# Altium schematic symbol library C210 Rev_D_221221a.SCHLIB: 99 symbols (part 1 of 2)
Pins are listed as number, name and electrical type; pins without a type are passive.

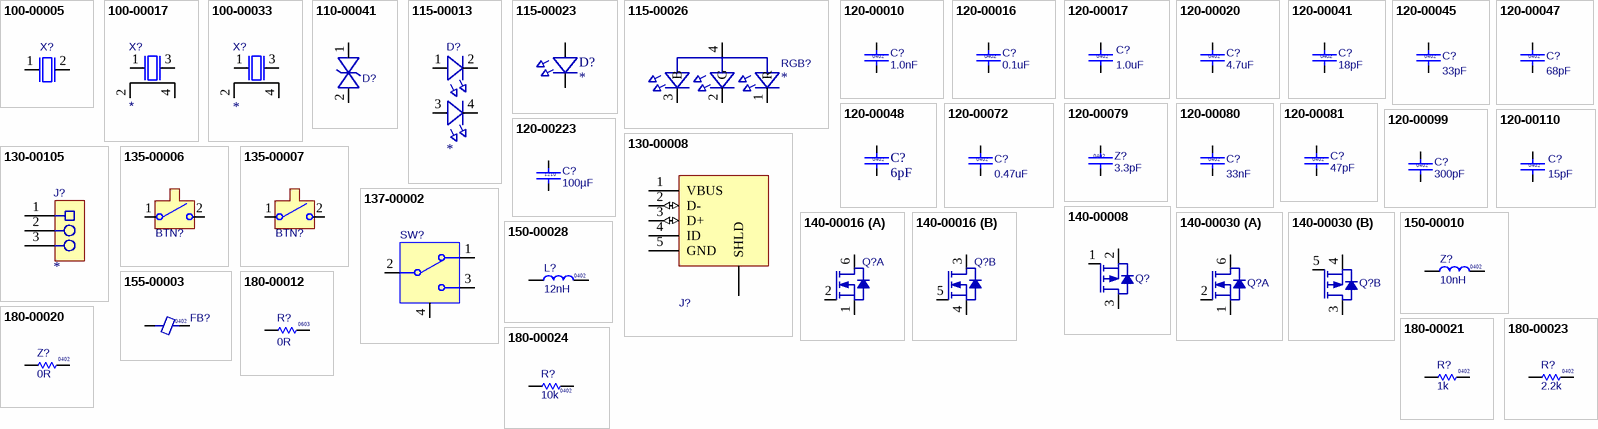
[diagram p0: symbols 100-00005 to 180-00024]

## 100-00005
designator X?
XTAL, 2Pin, 32.768kHz, 7pF 20ppm; Manufacturer Part Number 1: FC-135 32.7680KA-AG3; Part Number: 100-00005; Part Name: XTAL 32.768kHz 7pF 20ppm 3215; Part_Type: Crystal/Oscillator; Manufacturer 1: Epson; Item_Phase: Production; Body Size: 3.2mm x 1.5mm; Component Mounting Type: SMT; MFG Package: 2-SMD; Use in new designs: Yes; Revision: 0C; Supplier 1: Digi-Key; Supplier Part Number 1: SER4086CT-ND; Manufacturer 2: AVX Corporation; Manufacturer Part Number 2: ST3215SB32768C0HPWBB; Supplier 2: Digi-Key; Supplier Part Number 2: 1253-1113-1-ND; Arena Link: https://app.bom.com/a/L3MU07Q7Q98O5PC8?v=spec.summary; CL: 7pF; Frequency: 32.768kHz; Frequency Tolerance: 20ppm; Height: 0.9mm; Pins: 2
footprint XTAL_3215
pins: 1, 2

## 100-00017
designator X?
Crystal, 24.0000MHz, 20ppm, 10pF, 100 Ohm, -20Â°C - 70Â°C, SMT 4 Pin 2520; Part Number: 100-00017; Manufacturer 1: Abracon LLC; Manufacturer Part Number 1: ABM10-24.000MHZ-E20-T; Part Name: XTAL 24MHz 10pF 20ppm 2520; Body Size: 2.5mm x 2.0mm; Item Phase: Unreleased; MFG Package: 2520; Use in new designs: Yes; Voltage: None; Value: *; Supplier 1: Digi-Key; Supplier Part Number 1: 535-9093-1-ND; Manufacturer 2: Raltron Electronics; Manufacturer Part Number 2: R2520-24.000-10-1010-TR-NS4; Supplier 2: None; Supplier Part Number 2: None; Height: 0.7mm; Max Operating Temp: 70; Min Operating Temp: -20; Pins: 4; Revision: None; UBX Code: None
footprint XTAL_2520_HD
pins: 1, 2, 3, 4

## 100-00033
designator X?
12MHz ±10ppm Crystal 8pF 125 Ohm -40°C ~ 85°C Surface Mount 4-SMD, No Lead; Part Number: 100-00033; Manufacturer 1: Abracon LLC; Manufacturer Part Number 1: ABM10-167-12.000MHZ-T3; Part Name: XTAL 12MHz, 8pF, 30ppm; Body Size: 2.5mm X 2.0mm; Item Phase: Unreleased; Use in new designs: Yes; Voltage: None; Value: *; Supplier 1: Digi-Key; Supplier Part Number 1: 535-13521-1-ND; Manufacturer 2: None; Manufacturer Part Number 2: None; Supplier 2: None; Supplier Part Number 2: None; Height: 0.7mm; MFG Package: 4-SMD; Max Operating Temp: 85; Min Operating Temp: -40; Pins: 4; Revision: None; UBX Code: None
footprint XTAL_2520
pins: 1, 2, 3, 4

## 110-00041
designator D?
Diode TVS 5VWM BiDIR SOD523; Part Number: 110-00041; Manufacturer 1: ON Semiconductor; Manufacturer Part Number 1: ESD5B5.0ST1G; Part Name: Diode TVS 5VWM SOD523; Body Size: 1.2mm x 0.8mm; Current: None; Item Phase: Unreleased; MFG Package: SOD-523; Use in new designs: Yes; Supplier 1: Digi-Key; Supplier Part Number 1: ESD5B5.0ST1GOSCT-ND; Manufacturer 2: None; Manufacturer Part Number 2: None; Supplier 2: None; Supplier Part Number 2: None; Height: 0.7mm; Max Operating Temp: 150; Min Operating Temp: -55; Pins: 2; Revision: None; Voltage: 5VWM; UBX Code: None
footprint SOD-523_ALT
pins: 1, 2

## 115-00013
designator D?
Dual LED, Red/Green, Right Angle, Dome 1208; Part Number: 115-00013; Manufacturer 1: Dialight; Manufacturer Part Number 1: 5988510207F; Part Name: LED Red/Green RA SMT 1208; Body Size: 3.2mm x 1.5mm; Current: 20mA; Item Phase: In Production; MFG Package: 1208 Bi-color; Use in new designs: Yes; Voltage: None; Color: *; Supplier 1: Digi-Key; Supplier Part Number 1: 350-2072-1-ND; Height: 1.0mm; Max Operating Temp: None; Min Operating Temp: None; Pins: 4; Revision: 0A; Size: None; UBX Code: None; Manufacturer 2: None; Manufacturer Part Number 2: None; Supplier 2: None; Supplier Part Number 2: None
footprint LED_4Pin_4213_RA_3215
pins: 1 A1, 2 C1, 3 A2, 4 C2

## 115-00023
designator D?
LED BLUE DIFFUSED 0603 SMD; Part Number: 115-00023; Manufacturer 1: OSRAM Opto Semiconductors Inc; Manufacturer Part Number 1: LB Q39G-L2OO-35-1; Body Size: None; Item Phase: Unreleased; Color: *; Supplier 1: Digi-Key; Supplier Part Number 1: 475-2816-1-ND; Current: None; Height: None; MFG Package: None; Max Operating Temp: None; Min Operating Temp: None; Part Name: LED BLUE DIFFUSED 0603 SMD; Pins: None; Revision: None; Size: None; Use in new designs: None; Voltage: None; UBX Code: None; Manufacturer 2: None; Manufacturer Part Number 2: None; Supplier 2: None; Supplier Part Number 2: None
footprint LED-0603
pins: 1 C, 2 A

## 115-00026
designator RGB?
LED RGB SMT 0606; Part Number: 115-00026; Manufacturer 1: Lite-On Inc; Manufacturer Part Number 1: LTST-C19HE1WT; Body Size: 1.6mm x 1.6mm; Current: 20mA; Item Phase: In Production; MFG Package: 0606; Use in new designs: Yes; Voltage: None; Color: *; Supplier 1: Digi-Key; Supplier Part Number 1: 160-2162-1-ND; Height: 0.35mm; Max Operating Temp: 80; Min Operating Temp: -20; Part Name: LED RGB SMT 0606; Pins: 4; Revision: 0B; Size: Other; UBX Code: None; Manufacturer 2: QT Brightek (QTB); Manufacturer Part Number 2: QBLP600-RGB; Supplier 2: Digi-Key; Supplier Part Number 2: 1516-1184-1-ND
footprint LED_1616
pins: 1 R, 2 G, 3 B, 4 A

## 120-00010
designator C?  value 1.0nF  Size: 0402
CAP CER 1.0nF 50V 10% X7R 0402; Part Number: 120-00010; Manufacturer 1: TDK Corporation; Manufacturer Part Number 1: C1005X7R1H102K050BE; Item Phase: In Production; Tolerance: +/- 10%; Use in new designs: Yes; UBX Code: None; Supplier 1: Digi-Key; Supplier Part Number 1: 445-173622-1-ND; Manufacturer 2: Kemet; Manufacturer Part Number 2: C0402C102K5RACTU; Supplier 2: Digi-Key; Supplier Part Number 2: 399-1032-1-ND; Height: 0.55mm; Max Operating Temp: 125; Min Operating Temp: -55; Part Name: CAP CER 1.0NF 50V 10% X7R 0402; Pins: 2; Revision: 0D; Temperature Coefficient: X7R; Voltage: 50V
simulation model CAP (Semiconductor Capacitor)
signal-integrity model Cap Semi
footprint Cap 0402 HD
pins: 1, 2

## 120-00016
designator C?, comment value 0.1uF  Size: 0402  (hidden comment: 120-000160.1uF)
Cap, Ceramic 0.1uF 10V 10% X5R 0402; Part Name: CAP CER 0.1UF 10V 10% X5R 0402; Part_Type: Ceramic Capacitor; Manufacturer: Murata Electronics North America; Manufacturer P/N: GRM155R61A104KA01J; Item_Phase: Production; Component Mounting Type: SMT; Tolerance: +/- 10%; Use in new designs: Yes; Part Number: 120-00016; Revision: 0A; Supplier 1: Digi-Key; Supplier Part Number 1: 490-6297-1-ND; Manufacturer 2: Yageo; Manufacturer P/N 2: CC0402KRX5R6BB104; Supplier 2: Digi-Key; Supplier Part Number 2: 311-1336-1-ND; Arena Link: https://app.bom.com/a/GYHPV2L2L43KRMBK?v=spec.summary; Height: 0.55mm; Pins: 2; Temperature Coefficient: X5R; Voltage: 10V
simulation model CAP (Semiconductor Capacitor)
signal-integrity model Cap Semi
footprint Cap 0402 HD (Chip Capacitor, 2-Leads, Body 1.00x0.50mm, IPC High Density)
footprint Cap 0402
pins: 1, 2

## 120-00017
designator C?, comment value 1.0uF  Size: 0402  (hidden comment: 120-000171.0uF)
Cap, Ceramic, 1.0uF 10V 10% X5R, 0402; Part Name: CAP CER 1UF 10V 10% X5R 0402; Part_Type: Ceramic Capacitor; Manufacturer: Murata Electronics North America; Manufacturer P/N: GRM155R61A105KE15D; Item_Phase: Production; Component Mounting Type: SMT; Tolerance: +/- 10%; Use in new designs: Yes; Part Number: 120-00017; Revision: 0A; Supplier 1: Digi-Key; Supplier Part Number 1: 490-3890-1-ND; Manufacturer 2: TDK Corporation; Manufacturer P/N 2: C1005X5R1A105K050BB; Supplier 2: Digi-Key; Supplier Part Number 2: 445-4114-1-ND; Arena Link: https://app.bom.com/a/1J2AGN6N6PO5C7V9?v=spec.summary; Height: 0.55mm; Pins: 2; Temperature Coefficient: X5R; Voltage: 10V
simulation model CAP (Semiconductor Capacitor)
signal-integrity model Cap Semi
footprint Cap 0402 HD
footprint Cap 0402
pins: 1, 2

## 120-00020
designator C?  value 4.7uF  Size: 0402
Cap, Ceramic 4.7uF 10V 20% X5R 0402; Part Number: 120-00020; Manufacturer 1: Samsung Electro-Mechanics America, Inc; Manufacturer Part Number 1: CL05A475MP5NRNC; Part Name: CAP CER 4.7uF 10V 20% X5R 0402; Item Phase: In Production; Tolerance: +/- 20%; Use in new designs: Yes; UBX Code: None; Supplier 1: Digi-Key; Supplier Part Number 1: 1276-1482-1-ND; Manufacturer 2: Yageo; Manufacturer Part Number 2: CC0402KRX5R6BB475; Supplier 2: Digi-Key; Supplier Part Number 2: 311-3477-1-ND; Height: 0.55mm; Max Operating Temp: 85; Min Operating Temp: -55; Pins: 2; Revision: 0C; Temperature Coefficient: X5R; Voltage: 10V
simulation model CAP (Semiconductor Capacitor)
signal-integrity model Cap Semi
footprint Cap 0402 HD
pins: 1, 2

## 120-00041
designator C?  value 18pF  Size: 0402
Cap, Ceramic 18pF 50V 5% NP0 0402; Part Number: 120-00041; Manufacturer 1: NIC Components Inc; Manufacturer Part Number 1: NMC0402NPO180J50TRPF; Part Name: CAP CER 18PF 50V 5% NP0 0402; Item Phase: In Production; Tolerance: +/- 5%; Use in new designs: Yes; UBX Code: None; Supplier 1: Arrow; Supplier Part Number 1: NMC0402NPO180J50TRPF; Manufacturer 2: CCK; Manufacturer Part Number 2: CCK0402NPO5J180PL; Supplier 2: None; Supplier Part Number 2: None; Height: 0.55mm; Max Operating Temp: 125; Min Operating Temp: -55; Pins: 2; Revision: 0C; Temperature Coefficient: NP0; Voltage: 50V
simulation model CAP (Semiconductor Capacitor)
signal-integrity model Cap Semi
footprint Cap 0402 HD
pins: 1, 2

## 120-00045
designator C?  value 33pF  Size: 0402
Cap, Ceramic,  33pF, 50V, 5%, NPO, 0402; Part Number: 120-00045; Manufacturer 1: Samsung Electro-Mechanics America, Inc; Manufacturer Part Number 1: CL05C330JB5NNNC; Part Name: CAP CER 33PF 50V 5% NP0 0402; Item Phase: In Production; Temperature Coefficient: NP0; Tolerance: +/- 5%; Use in new designs: Yes; UBX Code: None; Supplier 1: Digi-Key; Supplier Part Number 1: 1276-1272-1-ND; Manufacturer 2: Murata Electronics North America; Manufacturer Part Number 2: GRM1555C1H330JA01D; Supplier 2: Digi-Key; Supplier Part Number 2: 490-5936-1-ND; Height: 0.55mm; Max Operating Temp: 125; Min Operating Temp: -55; Pins: 2; Revision: 0A; Voltage: 50V
simulation model CAP (Semiconductor Capacitor)
signal-integrity model Cap Semi
footprint Cap 0402 HD
pins: 1, 2

## 120-00047
designator C?  value 68pF  Size: 0402
Cap, Ceramic, 68pF, 50V, 1%, NP0, 0402; Part Number: 120-00047; Manufacturer 1: Murata Electronics North America; Manufacturer Part Number 1: GRM1555C1H680FA01D; Part Name: CAP CER 68PF 50V 1% NP0 0402; Item Phase: Unreleased; Tolerance: +/- 1%; Use in new designs: Yes; UBX Code: None; Supplier 1: Digi-Key; Supplier Part Number 1: 490-8219-1-ND; Manufacturer 2: AVX Corporation; Manufacturer Part Number 2: 04025A680FAT2A; Supplier 2: Digi-Key; Supplier Part Number 2: 478-7881-1-ND; Height: 0.55mm; Max Operating Temp: 125; Min Operating Temp: -55; Pins: 2; Revision: None; Temperature Coefficient: NP0; Voltage: 50V
simulation model CAP (Semiconductor Capacitor)
signal-integrity model Cap Semi
footprint Cap 0402 HD
pins: 1, 2

## 120-00048
designator C?  value 6pF  Size: 0402
Cap, Ceramic 6pF 50V NP0 0402  Tolerance = +/-0.5pF; Part Number: 120-00048; Manufacturer 1: Cal-Chip Electronics; Manufacturer Part Number 1: GMC04CG6R0D50NT; Part Name: CAP CER 6pF 50V +/-0.5pF NP0 0402; Item Phase: In Production; Tolerance: Other; Use in new designs: Yes; UBX Code: None; Supplier 1: None; Supplier Part Number 1: None; Manufacturer 2: Darfon Electronics Corp; Manufacturer Part Number 2: C1005NPO609DGTS; Supplier 2: None; Supplier Part Number 2: None; Height: 0.55mm; Max Operating Temp: 125; Min Operating Temp: -55; Pins: 2; Revision: 0B; Temperature Coefficient: NP0; Voltage: 50V
simulation model CAP (Semiconductor Capacitor)
signal-integrity model Cap Semi
footprint Cap 0402 HD
pins: 1, 2

## 120-00072
designator C?  value 0.47uF  Size: 0402
Cap, Ceramic, 0.47UF 10V 10% X5R 0402; Part Number: 120-00072; Manufacturer 1: Murata Electronics North America; Manufacturer Part Number 1: GRM155R61A474KE15J; Part Name: CAP CER 0.47UF 10V 10% X5R 0402; Item Phase: In Production; Tolerance: +/- 10%; Use in new designs: Yes; UBX Code: None; Supplier 1: Digi-Key; Supplier Part Number 1: 490-6305-1-ND; Manufacturer 2: Samsung Electro-Mechanics America, Inc; Manufacturer Part Number 2: CL05A474KP5NNNC; Supplier 2: Digi-Key; Supplier Part Number 2: 1276-1173-1-ND; Height: 0.55mm; Max Operating Temp: 85; Min Operating Temp: -55; Pins: 2; Revision: 0A; Temperature Coefficient: X5R; Voltage: 10V
simulation model CAP (Semiconductor Capacitor)
signal-integrity model Cap Semi
footprint Cap 0402 HD
pins: 1, 2

## 120-00079
designator Z?  value 3.3pF  Size: 0402
CAP CER 3.3PF 50V +/-0.25pF NP0 0402; Part Number: 120-00079; Manufacturer 1: Murata Electronics North America; Manufacturer Part Number 1: GRM1555C1H3R3CA01D; Item Phase: In Production; Tolerance: Other; Use in new designs: Yes; UBX Code: None; Supplier 1: Digi-Key; Supplier Part Number 1: 490-5938-1-ND; Manufacturer 2: Samsung Electro-Mechanics America, Inc; Manufacturer Part Number 2: CL05C3R3CB5NNNC; Supplier 2: Digi-Key; Supplier Part Number 2: 1276-1141-1-ND; Height: 0.55mm; Max Operating Temp: 125; Min Operating Temp: -55; Part Name: CAP CER 3.3PF 50V +/-0.25pF NP0 0402; Pins: 2; Revision: 0A; Temperature Coefficient: NP0; Voltage: 50V
simulation model CAP (Semiconductor Capacitor)
signal-integrity model Cap Semi
footprint Cap 0402 HD
pins: 1, 2

## 120-00080
designator C?  value 33nF  Size: 0402
Cap, Ceramic 33nF 16V 10% X7R 0402; Part Number: 120-00080; Manufacturer 1: Yageo; Manufacturer Part Number 1: CC0402KRX7R7BB333; Part Name: CAP CER 33nF 16V 10% X7R 0402; Item Phase: In Production; Tolerance: +/- 10%; Use in new designs: Yes; UBX Code: None; Supplier 1: Digi-Key; Supplier Part Number 1: 311-1420-1-ND; Manufacturer 2: TDK Corporation; Manufacturer Part Number 2: CGA2B2X7R1C333K050BA; Supplier 2: Digi-Key; Supplier Part Number 2: 445-12238-1-ND; Height: 0.55mm; Max Operating Temp: 125; Min Operating Temp: -55; Pins: 2; Revision: 0A; Temperature Coefficient: X7R; Voltage: 16V
simulation model CAP (Semiconductor Capacitor)
signal-integrity model Cap Semi
footprint Cap 0402 HD
pins: 1, 2

## 120-00081
designator C?  value 47pF  Size: 0402
Cap, Ceramic 47pF 50V 5% NP0 0402; Part Number: 120-00081; Manufacturer 1: Murata Electronics North America; Manufacturer Part Number 1: GRM1555C1H470JA01D; Part Name: CAP CER 47PF 50V 5% NP0 0402; Item Phase: In Production; Tolerance: +/- 5%; Use in new designs: Yes; UBX Code: None; Supplier 1: Digi-Key; Supplier Part Number 1: 490-5942-1-ND; Manufacturer 2: Samsung Electro-Mechanics America, Inc; Manufacturer Part Number 2: CL05C470JB5NNNC; Supplier 2: Digi-Key; Supplier Part Number 2: 1276-1699-1-ND; Height: 0.55mm; Max Operating Temp: 125; Min Operating Temp: -55; Pins: 2; Revision: 0A; Temperature Coefficient: NP0; Voltage: 50V
simulation model CAP (Semiconductor Capacitor)
signal-integrity model Cap Semi
footprint Cap 0402 HD
pins: 1, 2

## 120-00099
designator C?  value 300pF  Size: 0402
Cap, Ceramic 300pF 50V 5% NP0 0402; Part Number: 120-00099; Part Name: CAP CER 300pF 50V 5% NP0 0402; Part_Type: Ceramic Capacitor; Manufacturer: Murata Electronics North America; Manufacturer P/N: GRM1555C1H301JA01D; Item_Phase: Production; Component Mounting Type: SMT; Tolerance: +/- 5%; Use in new designs: Yes; Supplier 1: Digi-Key; Supplier Part Number 1: 490-3234-1-ND; Arena Link: https://app.bom.com/a/BTCKQXGXGZYCR3MS?v=spec.summary; Height: 0.55mm; Pins: 2; Temperature Coefficient: NP0; Voltage: 50V; Revision: 0B; Manufacturer 2: CCK; Manufacturer P/N 2: CCK0402NPO5J301PL; Alternate Footprint Ref: Cap 0402
simulation model CAP (Semiconductor Capacitor)
signal-integrity model Cap Semi
footprint Cap 0402 HD
pins: 1, 2

## 120-00110
designator C?  value 15pF  Size: 0402
Capacitor, Ceramic, 15pF 5%, 50V, NPO, 0402; Part Number: 120-00110; Manufacturer 1: Murata Electronics North America; Manufacturer Part Number 1: GRM1555C1H150JA01D; Part Name: CAP CER 15pF 50V 5% NP0 0402; Item Phase: In Production; Temperature Coefficient: NP0; Tolerance: +/- 5%; Use in new designs: Yes; UBX Code: None; Supplier 1: Digi-Key; Supplier Part Number 1: 490-5888-1-ND; Manufacturer 2: None; Manufacturer Part Number 2: None; Supplier 2: None; Supplier Part Number 2: None; Height: 0.55mm; Max Operating Temp: 125; Min Operating Temp: -55; Pins: 2; Revision: 0A; Voltage: 50V
simulation model CAP (Semiconductor Capacitor)
signal-integrity model Cap Semi
footprint Cap 0402 HD
pins: 1, 2

## 120-00223
designator C?  value 100µF  Size: 1210
100µF ±20% 10V Ceramic Capacitor X5R 1210 (3225 Metric); Part Number: 120-00223; Manufacturer 1: Samsung Electro-Mechanics America, Inc.; Manufacturer Part Number 1: CL32A107MPVNNNE; Part Name: CAP CER 100UF 10V 20% X5R 1210; Item Phase: In Production; Tolerance: +/- 20%; Use in new designs: Yes; UBX Code: None; Supplier 1: Future Electronics; Supplier Part Number 1: Samsung Electro-Mechanics America, Inc. CL32A107MPVNNNE; Manufacturer 2: None; Manufacturer Part Number 2: None; Supplier 2: None; Supplier Part Number 2: None; Height: 2.8mm; Max Operating Temp: 85; Min Operating Temp: -55; Pins: 2; Revision: 0A; Temperature Coefficient: X5R; Voltage: 10V
simulation model CAP (Semiconductor Capacitor)
signal-integrity model Cap Semi
footprint Cap 1210
pins: 1, 2

## 130-00008
designator J?
USB Micro B Receptacle, Right Angle SMT with 2 TH Tabs, 0.65mm; Part Number: 130-00008; Part Name: CON USB Micro-B SMT RA 2 Tabs; Part_Type: Connector; Manufacturer: FCI; Manufacturer P/N: 10118193-0001LF; Item_Phase: Production; Keyed: Yes; Locking: No; Rows: 1; Revision: 0B; Supplier 1: Digi-Key; Supplier Part Number 1: 609-4616-1-ND; Manufacturer 2: Seeed Technology; Manufacturer P/N 2: Rigado 130-00008; Supplier 2: Seeed Technology; Supplier Part Number 2: Rigado 130-00008; Arena Link: https://app.bom.com/a/O6PX3ATATCBTBM9U?v=spec.summary; Color: Silver; Component Mounting Type: SMT; Connector Type: USB; Height: 3.10mm; Length: 5.05mm; Pin Pitch: 0.65mm; Pins: 5; Use in new designs: Yes; Width: 7.86mm
footprint USB_Micro_RA_W-2TABS
pins: 1 VBUS (power), 2 D- (io), 3 D+ (io), 4 ID, 5 GND (power), 6 SHLD

## 130-00105
designator J?
Header, 0.100" Pitch, 3 Pin, Vertical SMT, Black; Part Number: 130-00105; Manufacturer 1: Harwin Inc; Manufacturer Part Number 1: M20-8770342; Part Name: CON HDR 0.1" 3 Pin 1 Row SMT; Item Phase: In Production; Use in new designs: Yes; Voltage: None; Manufacturer P/N: *; Supplier 1: Digi-Key; Supplier Part Number 1: 952-1951-ND; Diameter: None; Height: 9.93mm; Max Operating Temp: None; Min Operating Temp: None; Pins: 3; Revision: 0C; UBX Code: None; Manufacturer 2: Greenconn Corporation; Manufacturer Part Number 2: GPHC1010302A081B1BD; Supplier 2: Teamwise Limited; Supplier Part Number 2: Greenconn Corporation GPHC1010302A081B1BD; Manufacturer 3: Amphenol ICC (FCI); Manufacturer Part Number 3: 10129380-903001BLF
footprint HDR-0.1P-3Pin-1Row-SMT
pins: 1, 2, 3

## 135-00006
designator BTN?
Button SPST-NO Off-MOM, 50mA 12V, Right Angle, SMT; Part Number: 135-00006; Manufacturer 1: Omron Electronics Inc-EMC Div; Manufacturer Part Number 1: B3U-3000P; Part Name: Button Tactile SPST-NO 50mA 3mm RA SMT; Body Size: 3.00mm x 2.50mm; Item Phase: In Production; Use in new designs: Yes; Voltage: 12VDC; UBX Code: None; Supplier 1: Digi-Key; Supplier Part Number 1: SW1022CT-ND; Current: 50mA; Height: 1.35mm; Max Operating Temp: 70; Min Operating Temp: -25; Pins: 2; Revision: 0A; Manufacturer 2: None; Manufacturer Part Number 2: None; Supplier 2: None; Supplier Part Number 2: None
footprint B3U-3000P
pins: 1, 2

## 135-00007
designator BTN?
Button, Momentary SPST-NO, 0.05A, 12V, 3mm x 2.5mm; Part Number: 135-00007; Manufacturer 1: Omron Electronics Inc-EMC Div; Manufacturer Part Number 1: B3U-1000P; Part Name: SWITCH TACTILE SPST-NO 0.05A 12V; Current: 50mA; Item Phase: In Production; Use in new designs: Yes; Voltage: 12VDC; UBX Code: None; Supplier 1: Digi-Key; Supplier Part Number 1: SW1020CT-ND; Body Size: 3mm x 2.5mm; Height: 1.2mm; Max Operating Temp: 70; Min Operating Temp: -25; Pins: 2; Revision: 0A; Manufacturer 2: None; Manufacturer Part Number 2: None; Supplier 2: None; Supplier Part Number 2: None
footprint B3U-1000P
pins: 1, 2

## 137-00002
designator SW?
Slide switch, SPDT, 3 Pin, 500mA, 15V, Through Hole; Part Number: 137-00002; Manufacturer 1: E-Switch; Manufacturer Part Number 1: EG1224; Part Name: Switch Slide SPDT 500mA 13.8mm RA TH; Item Phase: Unreleased; Use in new designs: Yes; UBX Code: None; Supplier 1: Digi-Key; Supplier Part Number 1: EG2585-ND; Current: 500mA; Height: 8.5mm; Max Operating Temp: 70; Min Operating Temp: -20; Pins: 3; Revision: None; Voltage: 15V; Manufacturer 2: None; Manufacturer Part Number 2: None; Supplier 2: None; Supplier Part Number 2: None
footprint EG1224
pins: 1, 2, 3, 4 GND (power)

## 140-00008
designator Q?
P-MOSFET, 20V 3.1A, SOT-23; Part Number: 140-00008; Manufacturer 1: Vishay Siliconix; Manufacturer Part Number 1: SI2301CDS-T1-GE3; Part Name: Si2301CDS; Body Size: None; Item Phase: In Production; Transistor Type: P-Channel; MFG Package: SOT23; Use in new designs: Yes; Supplier 1: Digi-Key; Supplier Part Number 1: SI2301CDS-T1-GE3CT-ND; Current: 3.1A; Height: None; Max Operating Temp: 150; Min Operating Temp: -55; Pins: 3; Revision: 0B; Thermal Pad: None; Voltage: 20V; UBX Code: None; Manufacturer 2: None; Manufacturer Part Number 2: None; Supplier 2: None; Supplier Part Number 2: None
footprint SOT-23
pins: 1 G, 2 S, 3 D

## 140-00016
designator Q?
MOSFET 2N-CH 20V 0.8A, SOT-563; Part Number: 140-00016; Manufacturer 1: Toshiba Semiconductor and Storage; Manufacturer Part Number 1: SSM6N56FE,LM; Part Name: MOSFET 2N-CH 20V 0.8A SOT-563; Body Size: 1.6mm x 1.2mm; Current: 800mA; Item Phase: In Production; Transistor Type: N-Channel; Thermal Pad: No; Use in new designs: Yes; UBX Code: None; Supplier 1: Digi-Key; Supplier Part Number 1: SSM6N56FELMCT-ND; Height: 0.6mm; MFG Package: SOT-563; Max Operating Temp: 150; Min Operating Temp: -55; Pins: 6; Revision: 0A; Voltage: 20V; Manufacturer 2: None; Manufacturer Part Number 2: None; Supplier 2: None; Supplier Part Number 2: None
footprint SOT-563
part A pins: 1 S1, 2 G1, 6 D1
part B pins: 3 D2, 4 S2, 5 G2

## 140-00030
designator Q?
MOSFET N/P-CH 20V SOT-563, 540 mA, −430 mA; Part Number: 140-00030; Manufacturer 1: ON Semiconductor; Manufacturer Part Number 1: NTZD3155CT2G; Body Size: 1.6mmx1.6mm; Item Phase: In Production; Transistor Type: Multiple; Thermal Pad: No; Use in new designs: Yes; UBX Code: None; Supplier 1: Digi-Key; Supplier Part Number 1: NTZD3155CT2GOSCT-ND; Current: 540 mA, −430 mA; Height: 0.6mm; MFG Package: SOT-563; Max Operating Temp: 150; Min Operating Temp: -55; Part Name: MOSFET N/P-CH 20V SOT-563; Pins: 6; Revision: 0A; Voltage: 20V; Manufacturer 2: None; Manufacturer Part Number 2: None; Supplier 2: None; Supplier Part Number 2: None
footprint SOT-563
part A pins: 1 S1, 2 G1, 6 D1
part B pins: 3 D2, 4 S2, 5 G2

## 150-00010
designator Z?  value 10nH  Size: 0402
INDUCTOR 10NH 300MA 0402; Part Number: 150-00010; Manufacturer 1: Murata Electronics North America; Manufacturer Part Number 1: LQG15HS10NJ02D; Body Size: None; Item Phase: In Production; Tolerance: +/- 5%; Use in new designs: Yes; Supplier 1: Digi-Key; Supplier Part Number 1: 490-2623-1-ND; Current: None; Height: 0.55mm; Isat: 300mA; Max Operating Temp: 125; Min Operating Temp: -55; Part Name: INDUCTOR 10NH 300MA 0402; Pins: 2; Revision: 0A; Voltage: None; UBX Code: None; Manufacturer 2: None; Manufacturer Part Number 2: None; Supplier 2: None; Supplier Part Number 2: None
footprint IND 0402
pins: 1, 2

## 150-00028
designator L?  value 12nH  Size: 0402
Inductor, 12nH, 300mA, 0402; Part Number: 150-00028; Manufacturer 1: Johanson Technology Inc.; Manufacturer Part Number 1: L-07C12NJV6T; Part Name: IND 12nH 250mA 0402; Body Size: None; Item Phase: Unreleased; Tolerance: +/- 5%; Use in new designs: Yes; Supplier 1: Digi-Key; Supplier Part Number 1: 712-1453-1-ND; Current: 300mA; Height: 0.6mm; Isat: None; Max Operating Temp: 125; Min Operating Temp: -55; Pins: 2; Revision: None; Voltage: N/A; UBX Code: None; Manufacturer 2: None; Manufacturer Part Number 2: None; Supplier 2: None; Supplier Part Number 2: None
footprint IND 0402 HD
pins: 1, 2

## 155-00003
designator FB?  Size: 0402
Ferrite Bead, 1k Ohm @ 100MHz, 0402; Part Number: 155-00003; Manufacturer 1: Taiyo Yuden; Manufacturer Part Number 1: BK1005HM102-T; Part Name: FERRITE BEAD 1K OHM 0402; Body Size: None; Current: 150mA; Item Phase: In Production; Use in new designs: Yes; Value: None; Supplier 1: Digi-Key; Supplier Part Number 1: 587-1835-1-ND; Height: 0.55mm; MFG Package: None; Max Operating Temp: 125; Min Operating Temp: -55; Pins: 2; Revision: 0A; Voltage: None; Manufacturer 2: Kemet; Manufacturer Part Number 2: Z0402C102BSMST; Supplier 2: Digi-Key; Supplier Part Number 2: 399-9602-1-ND; UBX Code: None
footprint IND 0402
pins: 1, 2

## 180-00012
designator R?  value 0R  Size: 0603
Resistor 0 ohm Jumper, 1/10W, 0603; Part Number: 180-00012; Manufacturer 1: Hong Kong Resistors Manufactory; Manufacturer Part Number 1: RCT030RLF; Part Name: RES SMD 0.0 OHM JUMPER 1/10W 0603; Item Phase: In Production; Tolerance: None; Use in new designs: Yes; Supplier 1: None; Supplier Part Number 1: None; Manufacturer 2: Samsung Electro-Mechanics America, Inc; Manufacturer Part Number 2: RC1608J000CS; Supplier 2: Digi-Key; Supplier Part Number 2: 1276-3510-1-ND; Height: 0.55mm; Max Operating Temp: 155; Min Operating Temp: -55; Pins: 2; Power: 1/10W; Revision: 0D; Voltage: None; UBX Code: None
simulation model RESISTOR (Resistor)
signal-integrity model Res
footprint RES 0603 HD
pins: 1, 2

## 180-00020
designator Z?  value 0R  Size: 0402
Resistor 0 ohm 1/16W 0402; Part Number: 180-00020; Manufacturer 1: Yageo; Manufacturer Part Number 1: RC0402FR-070RL; Part Name: RES SMD 0.0 OHM JUMPER 1/16W 0402; Item Phase: In Production; Tolerance: None; Use in new designs: Yes; Supplier 1: Digi-Key; Supplier Part Number 1: 311-0.0LRCT-ND; Manufacturer 2: Hong Kong Resistors Manufactory; Manufacturer Part Number 2: RCT020RLF; Supplier 2: None; Supplier Part Number 2: None; Height: 0.40mm; Max Operating Temp: 155; Min Operating Temp: -55; Pins: 2; Power: 1/16W; Revision: 0E; Voltage: N/A; UBX Code: None
simulation model RESISTOR (Resistor)
signal-integrity model Res
footprint RES 0402 HD
pins: 1, 2

## 180-00021
designator R?  value 1k  Size: 0402
Resistor 1k ohm 1% 1/16W, 0402; Part Number: 180-00021; Manufacturer 1: Hong Kong Resistors Manufactory; Manufacturer Part Number 1: RCT021KFLF; Part Name: RES SMD 1K OHM 1% 1/16W 0402; Item Phase: In Production; Tolerance: +/- 1%; Use in new designs: Yes; Voltage: None; Supplier 1: None; Supplier Part Number 1: None; Manufacturer 2: Yageo; Manufacturer Part Number 2: RC0402FR-071KL; Supplier 2: Digi-Key; Supplier Part Number 2: 311-1.00KLRCT-ND; Height: 0.4mm; Max Operating Temp: 155; Min Operating Temp: -55; Pins: 2; Power: 1/16W; Revision: 0E; UBX Code: None
simulation model RESISTOR (Resistor)
signal-integrity model Res
footprint RES 0402 HD
pins: 1, 2

## 180-00023
designator R?  value 2.2k  Size: 0402
Resistor, 2.2Kohm, 1%, 1/16W, 0402; Part Number: 180-00023; Manufacturer 1: Rohm Semiconductor; Manufacturer Part Number 1: MCR01MRTF2201; Part Name: RES SMD 2.2K OHM 1% 1/16W 0402; Item Phase: In Production; Tolerance: +/- 1%; Use in new designs: Yes; Voltage: None; Supplier 1: Digi-Key; Supplier Part Number 1: RHM2.20KCDCT-ND; Manufacturer 2: Yageo; Manufacturer Part Number 2: RC0402FR-072K2L; Supplier 2: Digi-Key; Supplier Part Number 2: 311-2.20KLRCT-ND; Height: 0.4mm; Max Operating Temp: 155; Min Operating Temp: -55; Pins: 2; Power: 1/16W; Revision: 0A; UBX Code: None
simulation model RESISTOR (Resistor)
signal-integrity model Res
footprint RES 0402 HD
pins: 1, 2

## 180-00024
designator R?  value 10k  Size: 0402
Resistor 10k ohm 1% 1/16W, 0402; Part Number: 180-00024; Manufacturer 1: Samsung Electro-Mechanics America, Inc; Manufacturer Part Number 1: RC1005F103CS; Part Name: RES SMD 10K OHM 1% 1/16W 0402; Item Phase: In Production; Tolerance: +/- 1%; Use in new designs: Yes; UBX Code: None; Supplier 1: Digi-Key; Supplier Part Number 1: 1276-3431-1-ND; Manufacturer 2: Hong Kong Resistors Manufactory; Manufacturer Part Number 2: RCT0210KFLF; Supplier 2: None; Supplier Part Number 2: None; Height: 0.4mm; Max Operating Temp: 155; Min Operating Temp: -55; Pins: 2; Power: 1/16W; Revision: 0E; Voltage: N/A
simulation model RESISTOR (Resistor)
signal-integrity model Res
footprint RES 0402 HD
pins: 1, 2

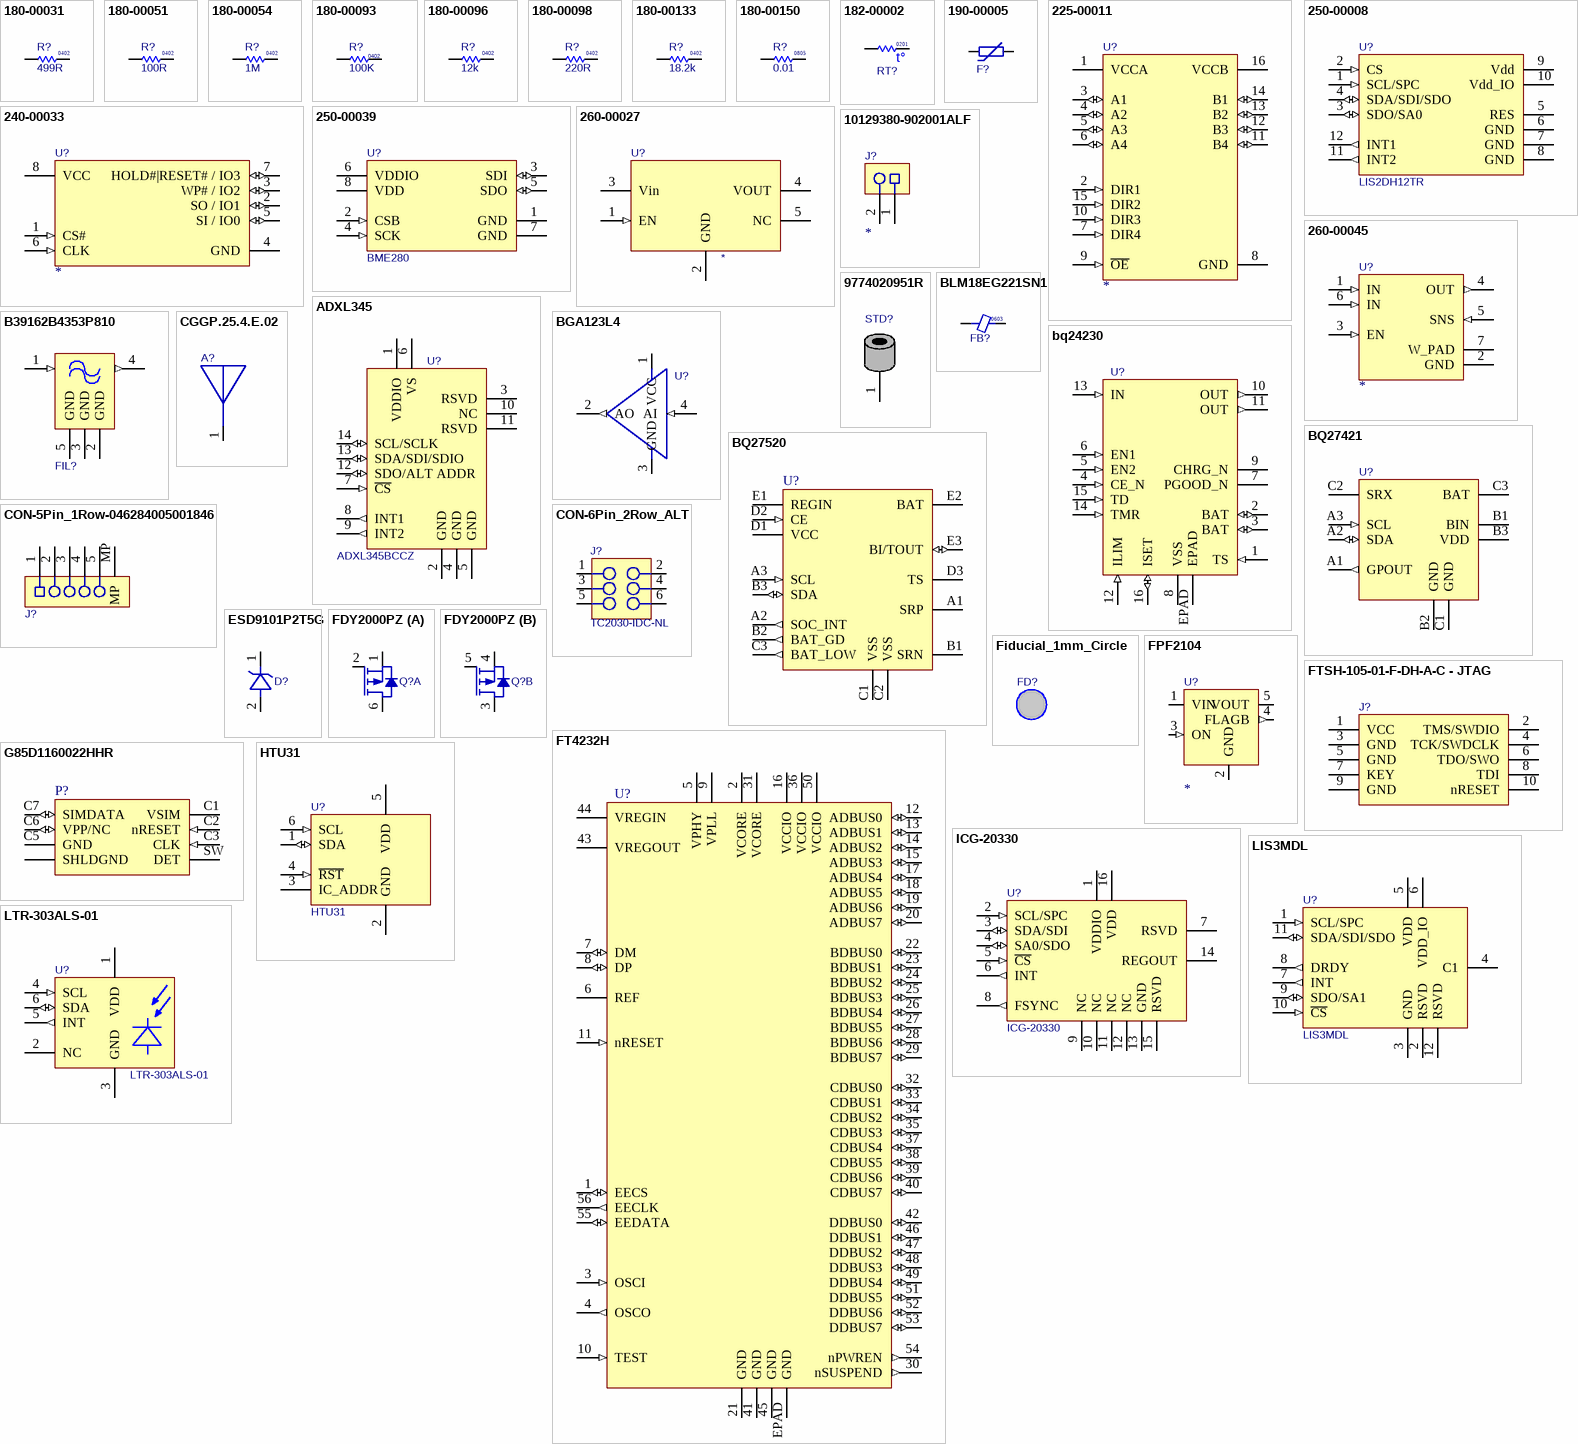
[diagram p1: symbols 180-00031 to LTR-303ALS-01]

## 180-00031
designator R?  value 499R  Size: 0402
Resistor, 499ohm, 1%, 1/16W, 0402; Part Number: 180-00031; Part Name: RES SMD 499 OHM 1% 1/16W 0402; Manufacturer: Rohm Semiconductor; Manufacturer P/N: MCR01MRTF4990; Item_Phase: Production; Component Mounting Type: SMT; Tolerance: +/- 1%; Use in new designs: Yes; Part_Type: Resistor; Supplier 1: Digi-Key; Supplier Part Number 1: RHM499CDCT-ND; Manufacturer 2: Samsung Electro-Mechanics America, Inc; Manufacturer P/N 2: RC1005F4990CS; Arena Link: https://app.bom.com/a/Q8RZ5CVCVEDU1SS5?v=spec.summary; Height: 0.4mm; Pins: 2; Power: 1/16W; Revision: 0D; Supplier 2: Digi-Key; Supplier Part Number 2: 1276-3992-1-ND; Alternate Footprint Ref: RES 0402
simulation model RESISTOR (Resistor)
signal-integrity model Res
footprint RES 0402 HD
pins: 1, 2

## 180-00051
designator R?  value 100R  Size: 0402
Resistor, 100ohm, 1%, 1/16W, 0402.; Part Number: 180-00051; Manufacturer 1: Hong Kong Resistors Manufactory; Manufacturer Part Number 1: RCT02100RFLF; Part Name: RES SMD 100 OHM 1% 1/16W 0402; Item Phase: In Production; Tolerance: +/- 1%; Use in new designs: Yes; Voltage: None; Supplier 1: None; Supplier Part Number 1: None; Manufacturer 2: Stackpole Electronics Inc.; Manufacturer Part Number 2: RMCF0402FT100R; Supplier 2: Digi-Key; Supplier Part Number 2: RMCF0402FT100RCT-ND; Height: 0.4mm; Max Operating Temp: 155; Min Operating Temp: -55; Pins: 2; Power: 1/16W; Revision: 0E; UBX Code: None
simulation model RESISTOR (Resistor)
signal-integrity model Res
footprint RES 0402 HD
pins: 1, 2

## 180-00054
designator R?  value 1M  Size: 0402
Resistor 1M ohm 1%, 1/16W, 0402; Part Number: 180-00054; Manufacturer 1: Samsung Electro-Mechanics America, Inc; Manufacturer Part Number 1: RC1005F105CS; Part Name: RES SMD 1M OHM 1% 1/16W 0402; Item Phase: In Production; Tolerance: +/- 1%; Use in new designs: Yes; Voltage: None; Supplier 1: Digi-Key; Supplier Part Number 1: 1276-3433-1-ND; Manufacturer 2: Hong Kong Resistors Manufactory; Manufacturer Part Number 2: RCT021MFLF; Supplier 2: None; Supplier Part Number 2: None; Height: 0.4mm; Max Operating Temp: 155; Min Operating Temp: -55; Pins: 2; Power: 1/16W; Revision: 0D; UBX Code: None
simulation model RESISTOR (Resistor)
signal-integrity model Res
footprint RES 0402 HD
pins: 1, 2

## 180-00093
designator R?  value 100K  Size: 0402
Resistor 100K ohm 1% 1/16W, 0402; Part Number: 180-00093; Manufacturer 1: Yageo; Manufacturer Part Number 1: RC0402FR-07100KL; Part Name: RES SMD 100K ohm 1% 1/16W 0402; Item Phase: In Production; Tolerance: +/- 1%; Use in new designs: Yes; Voltage: None; Supplier 1: Digi-Key; Supplier Part Number 1: 311-100KLRCT-ND; Manufacturer 2: Rohm Semiconductor; Manufacturer Part Number 2: MCR01MRTF1003; Supplier 2: Digi-Key; Supplier Part Number 2: RHM100KCDCT-ND; Height: 0.4mm; Max Operating Temp: 155; Min Operating Temp: -55; Pins: 2; Power: 1/16W; Revision: 0B; UBX Code: None
simulation model RESISTOR (Resistor)
signal-integrity model Res
footprint RES 0402 HD
pins: 1, 2

## 180-00096
designator R?  value 12k  Size: 0402
Resistor 12k ohm 1% 1/16W 0402; Part Number: 180-00096; Manufacturer 1: None; Part Name: RES SMD 12K OHM 1% 1/16W 0402; Item Phase: In Production; Tolerance: +/- 1%; Use in new designs: Yes; Manufacturer Part Number 1: None; Supplier 1: Digi-Key; Supplier Part Number 1: 1276-4122-1-ND; Manufacturer 2: Yageo; Manufacturer Part Number 2: RC0402FR-0712KL; Supplier 2: Digi-Key; Supplier Part Number 2: 311-12.0KLRCT-ND; Height: 0.4mm; Max Operating Temp: 155; Min Operating Temp: -55; Pins: 2; Power: 1/16W; Revision: 0A; Voltage: None; UBX Code: None
simulation model RESISTOR (Resistor)
signal-integrity model Res
footprint RES 0402 HD
pins: 1, 2

## 180-00098
designator R?  value 220R  Size: 0402
Resistor, 220ohm, 5%, 1/16W, 0402.; Part Number: 180-00098; Part Name: RES SMD 220 OHM 5% 1/16W 0402; Manufacturer: Panasonic Electronic Components; Manufacturer P/N: ERJ-2GEJ221X; Item_Phase: Production; Component Mounting Type: SMT; Tolerance: +/- 5%; Use in new designs: Yes; Part_Type: Resistor; Supplier 1: Digi-Key; Supplier Part Number 1: P220JCT-ND; Arena Link: https://app.bom.com/a/8Q9HNUDUDWVBJC30?v=spec.summary; Pins: 2; Power: 1/16W; Revision: 0C; Manufacturer 2: Samsung Electro-Mechanics America, Inc; Manufacturer P/N 2: RC1005J221CS; Supplier 2: Digi-Key; Supplier Part Number 2: 1276-4360-1-ND; Alternate Footprint Ref: RES 0402; Height: 0.4mm
simulation model RESISTOR (Resistor)
signal-integrity model Res
footprint RES 0402 HD
pins: 1, 2

## 180-00133
designator R?  value 18.2k  Size: 0402
Resistor, 18.2KOhm, 1%, 1/16W, 0402; Manufacturer 1: Stackpole Electronics Inc; Manufacturer Part Number 1: RMCF0402FT18K2; Part Name: RES SMD 18.2K Ohm 1% 1/16W 0402; Item Phase: In Production; Tolerance: +/- 1%; Use in new designs: Yes; Voltage: None; Manufacturer 2: Bourns Inc.; Manufacturer Part Number 2: CR0402-FX-1822GLF; Height: 0.4mm; Max Operating Temp: 155; Min Operating Temp: -55; Pins: 2; Power: 1/16W; Revision: 0C; UBX Code: None
simulation model RESISTOR (Resistor)
signal-integrity model Res
footprint RES 0402 HD
pins: 1, 2

## 180-00150
designator R?  value 0.01  Size: 0805
Resistor, 0.01 ohm 1% 1/2W, 0805; Manufacturer 1: Stackpole Electronics Inc; Manufacturer Part Number 1: CSS0805FT10L0; Part Name: RES SMD 0.01 OHM 1% 1/2W 0805; Item Phase: Unreleased; Tolerance: +/- 1%; Use in new designs: Yes; Voltage: None; Manufacturer 2: Susumu; Manufacturer Part Number 2: KRL1220E-M-R010-F-T5; Height: 0.75mm; Max Operating Temp: 125; Min Operating Temp: -55; Pins: 2; Power: 1/2W; Revision: None; UBX Code: None
simulation model RESISTOR (Resistor)
signal-integrity model Res
footprint RES 0805
pins: 1, 2

## 182-00002
designator RT?, comment Size: 0201  (hidden comment: Res Thermal)
Thermistor, 10Kohm, NTC 5%, 0201, 0.6mm x 0.3mm; Part Number: 182-00002; Manufacturer 1: Murata Electronics North America; Manufacturer Part Number 1: NCP03XH103J05RL; Part Name: Thermistor 10k Ohm 5% 3380K 0201; Item Phase: Unreleased; Power: 1/20W; Tolerance: +/- 5%; Use in new designs: Yes; Value: 10k; Voltage: None; Supplier 1: Digi-Key; Supplier Part Number 1: 490-4644-1-ND; Body Size: 0.6mm x 0.3mm; Height: 0.26mm; Max Operating Temp: 125; Min Operating Temp: -40; Pins: 2; Revision: None; UBX Code: None
footprint RES 0201 HD
pins: 1, 2
text: t°

## 190-00005
designator F?
Fuse, PTC 8V, 750mA, hold, 1.5A trip, 1206; Part Number: 190-00005; Manufacturer 1: Littelfuse; Manufacturer Part Number 1: 1206L075THYR; Part Name: Fuse PTC 8V 750mA 1206; Body Size: None; Item Phase: Unreleased; MFG Package: 1206L; Use in new designs: Yes; Supplier 1: Digi-Key; Supplier Part Number 1: F3370CT-ND; Current: 750mA; Height: 0.75mm; Max Operating Temp: 85; Min Operating Temp: -40; Pins: 2; Revision: None; Size: 1206; Voltage: None; UBX Code: None
footprint Fuse 1206
pins: 1, 2

## 225-00011
designator U?
Voltage Level Translator Bidirectional 1 Circuit 4 Channel 380Mbps 16-DHVQFN (2.5x3.5); Part Number: 225-00011; Manufacturer 1: NXP Semiconductors; Manufacturer Part Number 1: 74AVC4TD245BQ,115; Part Name: TXRX XLATING BIDIR 4CH 16-DHVQFN; Body Size: 2.5mm x 3.5mm; Item Phase: In Production; SMT Pitch: 0.5mm; Thermal Pad: Yes; Voltage: 3.6V; UBX Code: None; Manufacturer P/N: *; Supplier 1: Digi-Key; Supplier Part Number 1: 568-9220-1-ND; Height: 1mm; Logic Type: Level Translator; MFG Package: 16-DHVQFN; Max Operating Temp: 125; Min Operating Temp: -40; Pins: 16; Revision: 0B; Use in new designs: Yes; Manufacturer 2: ON Semiconductor; Manufacturer Part Number 2: FXL4TD245BQX; Supplier 2: Digi-Key; Supplier Part Number 2: FXL4TD245BQXCT-ND
footprint QFN0.5P2x6-16Pin_W-Pad
pins: 1 VCCA (power), 2 DIR1 (in), 3 A1 (io), 4 A2 (io), 5 A3 (io), 6 A4 (io), 7 DIR4 (in), 8 GND (power), 9 ~{OE} (in), 10 DIR3 (in), 11 B4 (io), 12 B3 (io), 13 B2 (io), 14 B1 (io), 15 DIR2 (in), 16 VCCB (power)

## 240-00033
designator U?
64Mbit QSPI NOR Flash; Part Number: 240-00033; Manufacturer 1: Macronix; Manufacturer Part Number 1: MX25R6435FZNIL0; Part Name: IC Flash 64MBIT 80MHz 8WSON; Body Size: 6mm x 5mm; Interface: SPI; Item Phase: In Production; Memory Type: Flash - NOR; Memory Speed: 80MHZ; MFG Package: 8-WDFN Exposed Pad; SMT Pitch: 1.27mm; Thermal Pad: Yes; Voltage: 3.6V; UBX Code: None; Manufacturer P/N: *; Supplier 1: Digi-Key; Supplier Part Number 1: 1092-1201-ND; Height: 0.8mm; Memory Size: 64Mbit; Max Operating Temp: 85; Min Operating Temp: -40; Pins: 8; Revision: 0A; Use in new designs: Yes; Manufacturer 2: None; Manufacturer Part Number 2: None; Supplier 2: None; Supplier Part Number 2: None
footprint WSON1.27P-8Pin_W-Pad
pins: 1 CS# (in), 2 SO / IO1 (io), 3 WP# / IO2 (io), 4 GND (power), 5 SI / IO0 (io), 6 CLK (in), 7 HOLD#|RESET# / IO3 (io), 8 VCC (power)

## 250-00008
designator U?  Manufacturer P/N: LIS2DH12TR
Accelerometer, 2G-16G Max, 12bit, LGA-12; Part Number: 250-00008; Part Name: LIS2DH12; Part_Type: Active Sensor; Manufacturer: STMicroelectronics; Item_Phase: Production; Accuracy: 1mg/digit; Bit Resolution: 12; Body Size: 2mm x 2mm; Component Mounting Type: SMT; Controller Interface: I2C/SPI; MFG Package: 12-LGA (2x2); Sensor Range Max: +/-16g; Sensor Range Min: +/-2g; SMT Pitch: 0.5mm; Use in new designs: Yes; Voltage: 3.6V; Revision: 0A; Supplier 1: Digi-Key; Supplier Part Number 1: 497-14851-1-ND; Arena Link: https://app.bom.com/a/I0JRX4N4N65KM89I?v=spec.summary; Height: 1mm; Package Type: LGA; Pins: 12; Sensor Type: Accelerometer
footprint LGA0.5P_4x4_12Pin
pins: 1 SCL/SPC (in), 2 CS (in), 3 SDO/SA0 (io), 4 SDA/SDI/SDO (io), 5 RES, 6 GND (power), 7 GND (power), 8 GND (power), 9 Vdd (power), 10 Vdd_IO (power), 11 INT2 (out), 12 INT1 (out)

## 250-00039
designator U?  Manufacturer P/N: BME280
SENSOR PRESSURE HUMIDITY TEMP; Part Number: 250-00039; Part_Type: Active Sensor; Manufacturer: Bosch Sensortec; Item_Phase: Pre-Production; Accuracy: ±3%; Body Size: 2.5mm x 2.5mm; Component Mounting Type: SMT; Controller Interface: I2C/SPI; MFG Package: DFN-8; Sensor Range Max: 1100 hPa; Sensor Range Min: 300 hPa; Sensor Type: Humidity/Pressure; SMT Pitch: 0.65mm; Use in new designs: Yes; Voltage: 3.6V; Part Name: BME280; Revision: 1; Supplier 1: Digi-Key; Supplier Part Number 1: 828-1063-1-ND; Arena Link: https://app.bom.com/a/ASBJPWFWFYX2LZ4C?v=spec.summary; Height: 1mm; Package Type: DFN; Pins: 8
footprint DFN0.65P-8Pin
pins: 1 GND (power), 2 CSB (in), 3 SDI (io), 4 SCK (in), 5 SDO (io), 6 VDDIO (power), 7 GND (power), 8 VDD (power)

## 260-00027
designator U?
LDO, 3.0V, 200mA, SOT-5; Part Number: 260-00027; Manufacturer 1: Toshiba Semiconductor and Storage; Manufacturer Part Number 1: TCR2LE30,LM(CT; Part Name: TCR2LE30; Body Size: 2.9mm x 1.6mm; Item Phase: Unreleased; Reg Outputs: 1xLDO; MFG Package: SOT-553; SMT Pitch: None; Thermal Pad: No; Use in new designs: Yes; Voltage: 6.0V; Manufacturer P/N: *; Supplier 1: Digi-Key; Supplier Part Number 1: TCR2LE30LM(CTCT-ND; Current: 200mA; Height: 1.3mm; Max Operating Temp: 85; Min Operating Temp: -40; Pins: 5; Revision: None; UBX Code: None; Manufacturer 2: None; Manufacturer Part Number 2: None; Supplier 2: None; Supplier Part Number 2: None
footprint SOT-553
pins: 1 EN (in), 2 GND (power), 3 Vin (power), 4 VOUT (power), 5 NC

## 260-00045
designator U?
IC REG LDO 3.3V 1A 6DFN; Part Number: 260-00045; Manufacturer 1: ON Semiconductor; Manufacturer Part Number 1: NCP692MN33T2G; Body Size: 3mm x 3mm; Item Phase: Unreleased; Reg Outputs: None; MFG Package: 6-VDFN Exposed Pad; SMT Pitch: 0.95mm; Thermal Pad: Yes; Manufacturer P/N: *; Supplier 1: Digi-Key; Supplier Part Number 1: NCP692MN33T2GOSTR-ND; Current: 1A; Height: 1mm; Max Operating Temp: 85; Min Operating Temp: -40; Part Name: NCP692MN33T2G; Pins: 6; Revision: None; Use in new designs: Yes; Voltage: 3.3V; UBX Code: None; Manufacturer 2: ON Semiconductor; Manufacturer Part Number 2: NCV8690MN33T2G; Supplier 2: None; Supplier Part Number 2: None
footprint DFN0.95P-6Pin_W-Pad
pins: 1 IN (in), 2 GND (power), 3 EN (in), 4 OUT (out), 5 SNS (in), 6 IN (in), 7 W_PAD (power)

## 10129380-902001ALF
designator J?  (value not drawn)
Header, 0.100" Pitch, 2 Pin, Vertical SMT, Black; Manufacturer 1: Amphenol ICC (FCI); Part Name: CON HDR 0.1" 2 Pin 1 Row SMT; Item Phase: In Production; Use in new designs: Yes; Voltage: None; Part Number: 10129380-902001ALF; Manufacturer Part Number 1: 10129380-902001ALF; Diameter: None; Height: 9.93mm; Max Operating Temp: None; Min Operating Temp: None; Pins: 2; Revision: 0C; UBX Code: None; Manufacturer 2: Sullins Connector Solutions; Manufacturer Part Number 2: NREC002SABC-M30RC; Manufacturer P/N: *
footprint HDR-0.1P-2Pin-1Row-SMT (Header 0.1" Pitch, 2 Pin, 2x1, Surface Mount)
pins: 1, 2

## 9774020951R
designator STD?
Standoff, SMT, 2mm, Unthreaded, 2.7mm ID, 5.1mm OD, Steel, Plated; Part Number: 9774020951R; Manufacturer 1: Würth Elektronik; Part Name: SMT STD 2mm; Item Phase: In Production; Use in new designs: Yes; Voltage: None; Manufacturer Part Number 1: 9774020951R; Supplier 1: None; Supplier Part Number 1: None; Diameter: None; Height: 2mm; Max Operating Temp: None; Min Operating Temp: None; Pins: 1; Revision: 0A; UBX Code: None; Manufacturer 2: None; Manufacturer Part Number 2: None; Supplier 2: None; Supplier Part Number 2: None
footprint 9774020951R (Standoff, Surface Mount, Unthreaded, 2.7mm ID, 5.1mm OD, 2mm Height)
pins: 1

## ADXL345
designator U?  Manufacturer Part Number 1: ADXL345BCCZ
SENSOR, ACCELEROMETER, 3-AXIS, I2C, SMT, +/-16g, LGA-14 3mmX5mm; Manufacturer 1: Analog Devices; Body Size: 3.0mm x 5.0mm; Current: None; Item Phase: In Production; Use in new designs: Yes; Part Number: ADXL345BCCZ; Manufacturer 2: Analog Devices; Manufacturer Part Number 2: ADXL345BCCZ-RL; Height: 0.45mm; Max Operating Temp: 85; Min Operating Temp: -40; Pins: 14; Revision: 0A; Voltage: N/A; UBX Code: None
footprint ADXL345 (CC-14-1, 14-pin LGA, Analog Devices Accelerometer, .8mm pitch, 3mmX5mm)
pins: 1 VDDIO (power) "Digital Supply Logic Voltage", 2 GND (power) "Ground", 3 RSVD "Connect to Vs or No Connect", 4 GND (power) "Ground", 5 GND (power) "Ground", 6 VS (power) "Supply Voltage", 7 ~{CS} (in) "Logic Low Chip Select for SPI Modes", 8 INT1 (out) "Interrupt 1 Output", 9 INT2 (out) "Interrupt 2 Output", 10 NC "Not Internally Connected", 11 RSVD "Connect to Gnd or No Connect", 12 SDO/ALT ADDR (io) "Serial Data Output/Alternate I2C Address Select.", 13 SDA/SDI/SDIO (io) "Serial Data (I2C)/Serial Data Input (SPI 4-Wire)/Serial Data Input and Output (SPI 3-Wire).", 14 SCL/SCLK (io) "Serial Communications Clock."

## B39162B4353P810
designator FIL?
FILTER, SMT, SAW, GNSS, 1.559-1.606GHz, LGA5; Part Number: B39162B4353P810; Manufacturer 1: RF360; Body Size: 1.4mm x 1.1mm; Current: None; Item Phase: In Production; MFG Package: QCS5P; Use in new designs: Yes; Manufacturer Part Number 1: B39162B4353P810; Supplier 1: Mouser; Supplier Part Number 1: 871-B39162B4353P810; Height: 0.45mm; Max Operating Temp: 85; Min Operating Temp: -40; Part Name: B39162B4353P810; Pins: 5; Revision: 0A; Voltage: N/A; UBX Code: None
footprint QCS5P (UFLGA, 5 pin SAW Filter, .5mm pitch, 1.4mm x 1.1mm)
pins: 1 Input (in) "Filter Input", 2 GND (power) "Ground", 3 GND (power) "Ground", 4 Output (out) "Filter Output", 5 GND (power) "Ground"

## BGA123L4
designator U?
LNA, SMT, GNSS, 1.1-3.6V, 1.1mA18dB, 0.75dB, BGA4; Part Number: BGA123L4; Manufacturer 1: Infineon Technologies; Manufacturer Part Number 1: BGA123L4E6327XTSA1; Body Size: 0.7mm x 0.7mm; Current: None; Item Phase: In Production; MFG Package: TSLP-4-11; Use in new designs: Yes; Supplier 1: Digi-Key; Supplier Part Number 1: BGA123L4E6327XTSA1TR-ND; Height: 0.35mm; Max Operating Temp: 85; Min Operating Temp: -40; Part Name: BGA123L4; Pins: 4; Revision: 0A; Voltage: 1.1-3.6V; UBX Code: None
footprint BGA0.4P2x2-4Pin (UFBGA, 5 pin 2 row x 2 column, .4mm pitch,  0.7mm x 0.7mm)
pins: 1 VCC (power) "DC Supply", 2 AO (out), 3 GND (power) "Ground", 4 AI (in) "LNA Input"

## BLM18EG221SN1
designator FB?  Size: 0603
Ferrite Bead, 220ohm @ 100MHz, 2A, 0603; Part Number: BLM18EG221SN1; Manufacturer 1: Murata Electronics North America; Manufacturer Part Number 1: BLM18EG221SN1D; Part Name: Ferrite Bead 220ohm 2A 0503; Body Size: None; Item Phase: Unreleased; Use in new designs: Yes; Value: None; Supplier 1: Digi-Key; Supplier Part Number 1: 490-3992-2-ND; Current: 2A; Height: 0.8mm; MFG Package: None; Max Operating Temp: 85; Min Operating Temp: -55; Pins: None; Revision: None; Voltage: None; Manufacturer 2: None; Manufacturer Part Number 2: None; Supplier 2: None; Supplier Part Number 2: None; UBX Code: None
footprint BLM18EG221SN1 (Inductor 0603 footprint, IPC high density)
pins: 1, 2